# Altium footprint library Footprint_SMT_Connectors.PcbLib: 6 footprints
Each footprint in its own frame and in the unit in brackets; x right, y up, seen from the top. Pads: shape width x height; smd on the part's side, far side on the other; paste and mask are expansions set on the pad; w line width, h text height; cw(c..) or ccw(c..) is an arc to the next point about the centre after c.
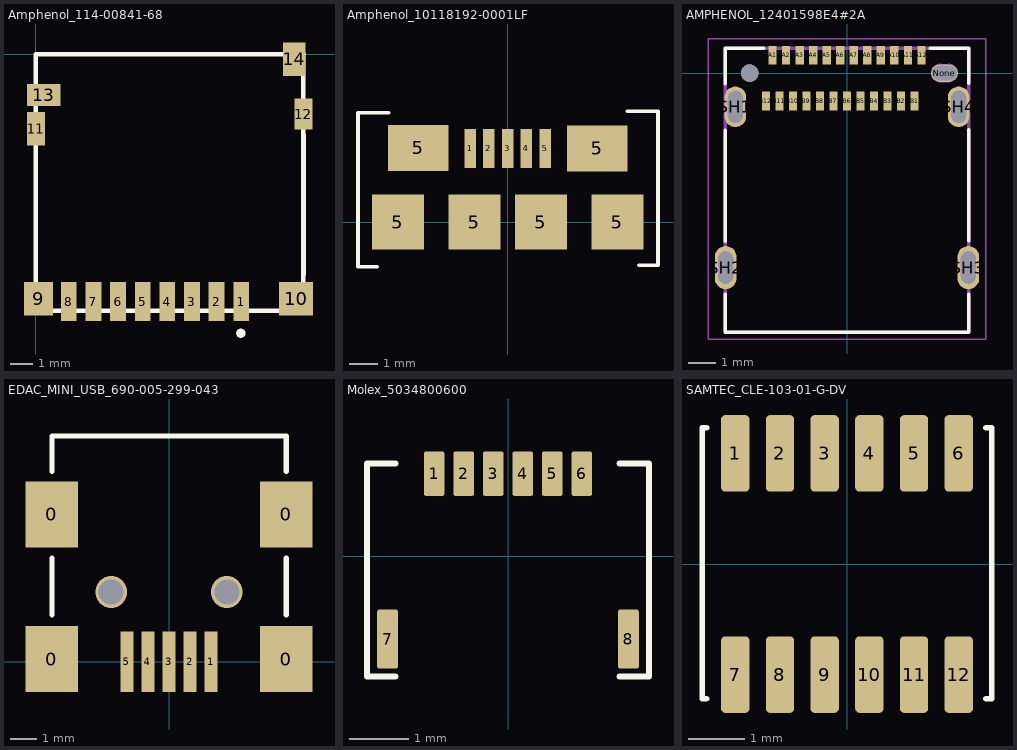
[diagram p0: the footprints below, top view; thin cyan lines are the x and y axes]

## Amphenol_114-00841-68 [mm] "Amphenol Micro SD Connector"
pads (14):
  rect 0.7x1.75 smd: 1(9.175,-11.038) 6(3.675,-11.038)
  rect 0.701x1.753 smd: 2(8.075,-11.038) 8(1.475,-11.038)
  rect 0.701x1.752 smd: 3(6.975,-11.038) 4(5.875,-11.038) 5(4.775,-11.038) 7(2.575,-11.038)
  rect 1.3x1.5 smd: 9(0.127,-10.913)
  rect 1.502x1.502 smd: 10(11.625,-10.913)
  rect 0.801x1.501 smd: 11(0,-3.313)
  rect 0.8x1.401 smd: 12(11.95,-2.663)
  rect 1.5x1 smd: 13(0.355,-1.813)
  rect 1.001x1.502 smd: 14(11.55,-0.213)
Top Overlay:
  circle w0.2: c9.159,-12.455 r0.106
  circle w0.2: c9.159,-12.455 r0.106
  lines w0.2: 0,0 11.963,0 0,0 ; 0,0 10.631,0 0,0 ; 0,0 0,-11.466 0,0 ; 0,-11.451 11.951,-11.451 0,-11.451 ; 0,-9.771 0,-5.735 0,-9.771 ; 0,-5.729 0,-4.388 0,-5.729 ; 11.957,-11.457 11.957,0 11.957,-11.457 ; 11.96,-9.841 11.96,-5.73 11.96,-9.841 ; 11.963,-5.731 11.963,-3.583 11.963,-5.731

## Amphenol_10118192-0001LF [mm] "MICRO USB"
pads (11):
  rect 0.4x1.35 smd: 1(-1.3,2.55) 2(-0.65,2.55) 3(0,2.55) 4(0.65,2.55) 5(1.3,2.55)
  rect 1.8x1.9 smd: 5(-3.8,0) 5(-1.15,0) 5(1.15,0) 5(3.8,0)
  rect 2.1x1.6 smd: 5(-3.1,2.565) 5(3.1,2.55)
Top Overlay:
  lines w0.127: -4.521,-1.549 -5.182,-1.549 -5.182,3.785 -4.115,3.785 ; 4.14,3.835 5.207,3.835 5.207,-1.499 4.547,-1.499
3D body "10118192C.stp": height 2.79, standoff -0.22, extent -3.982,-2.689 3.931,2.972

## AMPHENOL_12401598E4#2A [mm] "USB Type C"
pads (30):
  rect 0.3x0.7 smd: A1(-2.75,0.66) A2(-2.25,0.66) A3(-1.75,0.66) A4(-1.25,0.66) A5(-0.75,0.66) A6(-0.25,0.66) A7(0.25,0.66) A8(0.75,0.66) A9(1.25,0.66) A10(1.75,0.66) A11(2.25,0.66) A12(2.75,0.66) B1(2.5,-1.04) B2(2,-1.04) B3(1.5,-1.04) B4(1,-1.04) B5(0.5,-1.04) B6(0,-1.04) B7(-0.5,-1.04) B8(-1,-1.04) B9(-1.5,-1.04) B10(-2,-1.04) B11(-2.5,-1.04) B12(-3,-1.04)
  round 0.65 hole 0.65 unplated: None(-3.6,0)
  rrect100% 1x0.65 hole 0.55 slot 0.92 at 0 deg unplated: None(3.607,0)
  oval 0.8x1.5 hole 0.55 slot 1.2 at 90 deg: SH1(-4.13,-1.25) SH4(4.13,-1.25)
  oval 0.8x1.6 hole 0.55 slot 1.2 at 90 deg: SH2(-4.49,-7.2) SH3(4.49,-7.2)
Top Overlay:
  lines w0.127: -4.5,-8.19 -4.5,-9.59 4.5,-9.59 4.5,-8.18 ; -4.5,-6.22 -4.5,-2.12 ; -4.5,-0.4 -4.5,0.91 -3.08,0.91 ; 3.08,0.91 4.5,0.91 4.5,-0.38 ; 4.5,-6.21 4.5,-2.1
Mechanical 1:
  lines w0: -4.74,-7.5 ccw(c-4.49,-7.5) -4.24,-7.5 -4.24,-6.9 ccw(c-4.49,-6.9) -4.74,-6.9 -4.74,-7.5 ; -4.38,-1.55 ccw(c-4.13,-1.55) -3.88,-1.55 -3.88,-0.95 ccw(c-4.13,-0.95) -4.38,-0.95 -4.38,-1.55 ; 3.45,-0.325 cw(c3.45,0) 3.45,0.325 3.75,0.325 cw(c3.75,0) 3.75,-0.325 3.45,-0.325 ; 3.88,-1.55 ccw(c4.13,-1.55) 4.38,-1.55 4.38,-0.95 ccw(c4.13,-0.95) 3.88,-0.95 3.88,-1.55 ; 4.24,-7.5 ccw(c4.49,-7.5) 4.74,-7.5 4.74,-6.9 ccw(c4.49,-6.9) 4.24,-6.9 4.24,-7.5
Mechanical 13:
  lines w0.127: -4.5,-9.59 4.5,-9.59 ; -4.5,-9.59 -4.5,0.91 ; -4.5,-9.59 4.5,-9.59 ; -4.5,-9.59 -4.5,0.91 ; -4.5,0.91 4.5,0.91 ; -4.5,0.91 4.5,0.91 ; 4.5,-9.59 4.5,0.91 ; 4.5,-9.59 4.5,0.91
Mechanical 15:
  lines w0.05: -5.14,-9.84 5.14,-9.84 5.14,1.26 -5.14,1.26 -5.14,-9.84
3D body "12401598E4#2A--3DModel-STEP-56544.STEP": height 3.28, standoff -2.1, extent -4.6,-9.6 4.6,0.9

## EDAC_MINI_USB_690-005-299-043 [mm] "EDAC Mini USB Connector"
pads (9):
  rect 2x2.5 smd: 0(-4.45,0.1) 0(-4.45,5.6) 0(4.45,0.1) 0(4.45,5.6)
  rect 0.5x2.3 smd: 1(1.6,0) 2(0.8,0) 3(0,0) 4(-0.8,0) 5(-1.6,0)
via -2.2,2.65 diameter 1.2 hole 0.95
via 2.2,2.65 diameter 1.2 hole 0.95
Top Overlay:
  lines w0.203: -4.445,1.778 -4.445,3.937 ; -4.445,7.239 -4.445,8.577 4.455,8.577 4.455,7.239 ; 4.455,1.778 4.455,3.937

## Molex_5034800600 [mm] "CONN FFC FPC 6POS 0.50MM R/A"
pads (8):
  rrect20% 0.35x0.75 smd: 1(-1.25,1.4) 2(-0.75,1.4) 3(-0.25,1.4) 4(0.25,1.4) 5(0.75,1.4) 6(1.25,1.4)
  rrect20% 0.35x1 smd: 7(-2.04,-1.4) 8(2.04,-1.4)
Top Overlay:
  lines w0.102: -1.905,-2.032 -2.388,-2.032 -2.388,1.575 -1.905,1.575 ; 1.892,-2.032 2.388,-2.032 2.388,1.575 1.892,1.575
3D body "5034800600.stp": height 1.88, standoff -0.02, extent -2.35,-2.032 2.35,1.568

## SAMTEC_CLE-103-01-G-DV [mm] "SAMTEC 2x6 0.8mm connector"
pads (12):
  rrect30% 0.508x1.37 smd: 1(-2,1.98) 2(-1.2,1.98) 3(-0.4,1.98) 4(0.4,1.98) 5(1.2,1.98) 6(2,1.98) 7(-2,-1.98) 8(-1.2,-1.98) 9(-0.4,-1.98) 10(0.4,-1.98) 11(1.2,-1.98) 12(2,-1.98)
Top Overlay:
  lines w0.102: -2.515,-2.413 -2.591,-2.413 -2.591,2.438 -2.515,2.438 ; 2.489,-2.413 2.591,-2.413 2.591,2.438 2.489,2.438
3D body "CLE-106-01-G-DV.stp": height 3.12, standoff -0.18, extent -2.591,-2.426 2.591,2.426